# Altium schematic symbol library SCH - POWER - LINEAR VREG - Ricoh R1517Sxx1+-E2-FE.Schlib: 1 symbol
Pins are listed as number, name and electrical type; pins without a type are passive.

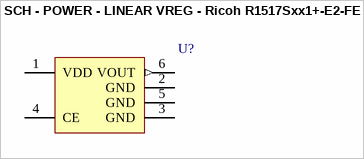
[diagram p0: symbol SCH - POWER - LINEAR VREG - Ricoh R1517Sxx1+-E2-FE]

## SCH - POWER - LINEAR VREG - Ricoh R1517Sxx1+-E2-FE
designator U?
footprint HSOP6J (HSOP, 6-Leads, Body 5x6x1.5mm, Pitch 1,905mm, IPC Medium Density)
pins: 1 VDD (power), 2 GND (power), 3 GND (power), 4 CE, 5 GND (power), 6 VOUT (out)